# Altium integrated library 02015C101KAT2A.IntLib: 1 symbol
Pins are listed as number, name and electrical type; pins without a type are passive.

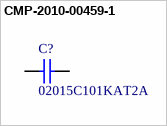
[diagram p0: symbol CMP-2010-00459-1]

## CMP-2010-00459-1
designator C?, comment 02015C101KAT2A
Manufacturer: AVX Interconnect / Elco; Part Number: 02015C101KAT2A
footprint CAPC0603X33X15LL03T05 (Chip Capacitor, 2-Leads, Body 0.60x0.30mm, IPC High Density)
footprint CAPC0603X33X15NL03T05 (Chip Capacitor, 2-Leads, Body 0.60x0.30mm, IPC Medium Density)
footprint CAPC0603X33X15ML03T05 (Chip Capacitor, 2-Leads, Body 0.60x0.30mm, IPC Low Density)
pins: 1, 2
1 alternate drawing of the same symbol